# EAGLE library part W25Q128JVSIM_TR (library winbond-spi-flash-128mb-W25Q128JVSIM_TR)
3V 128M-BIT SERIAL FLASH MEMORY WITH DUAL/QUAD SPI & QPI & DTR Source: Datasheet <http://www.winbond.com/resource-files/w25q128jv dtr revb 11042016.pdf>
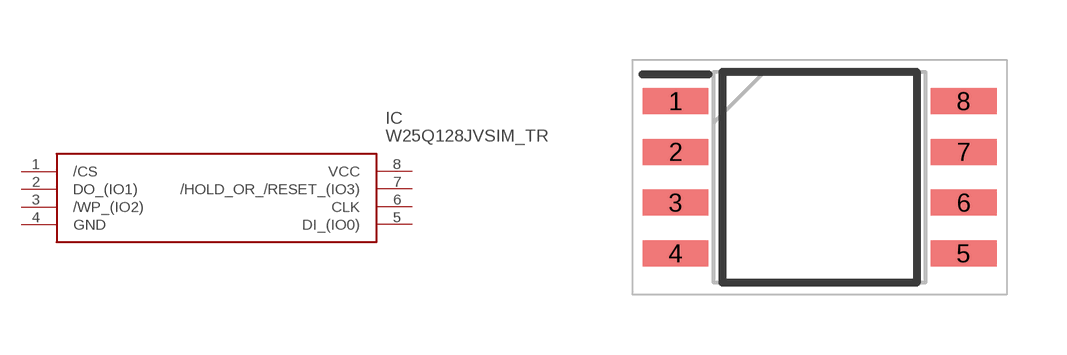
[diagram p0: symbol with the pads of SOIC127P790X216-8N; footprint SOIC127P790X216-8N]

Designator prefix IC

## W25Q128JVSIM_TR (Arrow_Part_Number: W25Q128JVSIM TR; Arrow_Price-Stock: https://www.arrow.com/en/products/w25q128jvsimtr/winbond-electronics?region=nac; Description: 3V 128M-BIT SERIAL FLASH MEMORY WITH DUAL/QUAD SPI & QPI & DTR; Height: 2.16mm; Manufacturer_Name: Winbond; Manufacturer_Part_Number: W25Q128JVSIM TR; Mouser_Part_Number: 454-W25Q128JVSIMTR; Mouser_Price-Stock: https://www.mouser.co.uk/ProductDetail/Winbond/W25Q128JVSIM-TR?qs=qSfuJ%252Bfl%2Fd6ji9IuruL6Zg%3D%3D)  [SOIC127P790X216-8N]
1  /CS
2  DO_(IO1)
3  /WP_(IO2)
4  GND
5  DI_(IO0)
6  CLK
7  /HOLD_OR_/RESET_(IO3)
8  VCC

## Footprint SOIC127P790X216-8N (pad centres in mm)
8-Pin SOIC 208-mil (Package Code S)_1
smd 1.65 x 0.65: 1 -3.6,1.905; 2 -3.6,0.635; 3 -3.6,-0.635; 4 -3.6,-1.905; 5 3.6,-1.905; 6 3.6,-0.635; 7 3.6,0.635; 8 3.6,1.905